# EAGLE library part BBXM-P9 (library zz-upenn 2)
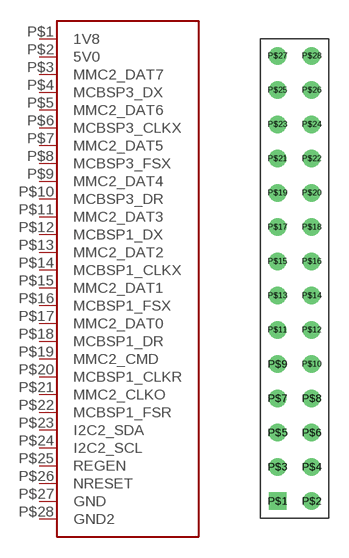
[diagram p36: symbol with the pads of BBXM-P9; footprint BBXM-P9]

Designator prefix -

## BBXM-P9  [BBXM-P9]
P$1  1V8
P$2  5V0
P$3  MMC2_DAT7
P$4  MCBSP3_DX
P$5  MMC2_DAT6
P$6  MCBSP3_CLKX
P$7  MMC2_DAT5
P$8  MCBSP3_FSX
P$9  MMC2_DAT4
P$10  MCBSP3_DR
P$11  MMC2_DAT3
P$12  MCBSP1_DX
P$13  MMC2_DAT2
P$14  MCBSP1_CLKX
P$15  MMC2_DAT1
P$16  MCBSP1_FSX
P$17  MMC2_DAT0
P$18  MCBSP1_DR
P$19  MMC2_CMD
P$20  MCBSP1_CLKR
P$21  MMC2_CLKO
P$22  MCBSP1_FSR
P$23  I2C2_SDA
P$24  I2C2_SCL
P$25  REGEN
P$26  NRESET
P$27  GND
P$28  GND2

## Footprint BBXM-P9 (pad centres in mm)
drill 0.8 square: P$1 0,0
drill 0.8: P$2 2.54,0; P$3 0,2.54; P$4 2.54,2.54; P$5 0,5.08; P$6 2.54,5.08; P$7 0,7.62; P$8 2.54,7.62; P$9 0,10.16; P$10 2.54,10.16; P$11 0,12.7; P$12 2.54,12.7; P$13 0,15.24; P$14 2.54,15.24; P$15 0,17.78; P$16 2.54,17.78; P$17 0,20.32; P$18 2.54,20.32; P$19 0,22.86; P$20 2.54,22.86; P$21 0,25.4; P$22 2.54,25.4; P$23 0,27.94; P$24 2.54,27.94; P$25 0,30.48; P$26 2.54,30.48; P$27 0,33.02; P$28 2.54,33.02